# Altium schematic symbol library Schlib.SchLib: 1 symbol
Pins are listed as number, name and electrical type; pins without a type are passive.

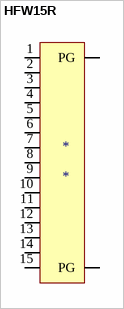
[diagram p0: symbol HFW15R]

## HFW15R
designator *
footprint HFW15R
pins: 1, 2, 3, 4, 5, 6, 7, 8, 9, 10, 11, 12, 13, 14, 15, PG, PG